# Altium schematic symbol library MCP4541.SchLib: 1 symbol
Pins are listed as number, name and electrical type; pins without a type are passive.

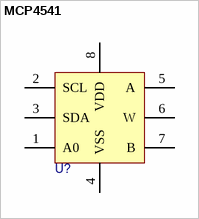
[diagram p0: symbol MCP4541]

## MCP4541
designator U?  (value not drawn)
pins: 1 A0, 2 SCL, 3 SDA, 4 VSS, 5 A, 6 W, 7 B, 8 VDD